# Altium schematic symbol library DIODE,Zener,10V,300mW,SMD.Schlib: 1 symbol
Pins are listed as number, name and electrical type; pins without a type are passive.

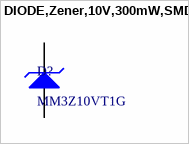
[diagram p0: symbol DIODE,Zener,10V,300mW,SMD]

## DIODE,Zener,10V,300mW,SMD
designator D?, comment MM3Z10VT1G
Zener Diode 10V 300mW ±6% Surface Mount SOD-323
pins: 1 K, 2 A